# EAGLE library part PIC16F1459 (library GadgetFactory_v1)
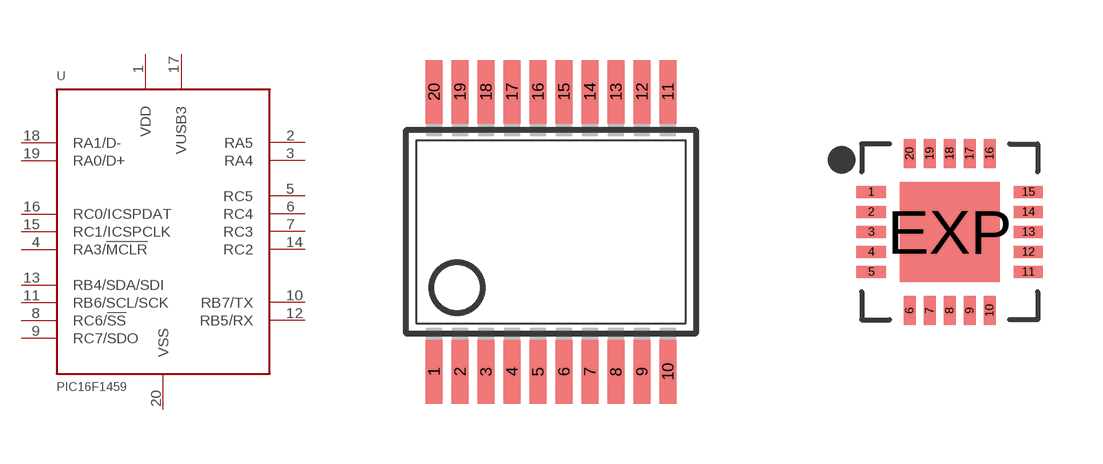
[diagram p14: symbol with the pads of SSOP20; footprints SSOP20, QFN20]

Designator prefix U

## PIC16F1459SS  [SSOP20]
1  VDD  pwr
2  RA5
3  RA4
4  RA3/!MCLR
5  RC5
6  RC4
7  RC3
8  RC6/!SS
9  RC7/SDO
10  RB7/TX
11  RB6/SCL/SCK
12  RB5/RX
13  RB4/SDA/SDI
14  RC2
15  RC1/ICSPCLK
16  RC0/ICSPDAT
17  VUSB3  pwr
18  RA1/D-
19  RA0/D+
20  VSS  pas

## PIC16F1459ML  [QFN20]
1  RA3/!MCLR
2  RC5
3  RC4
4  RC3
5  RC6/!SS
6  RC7/SDO
7  RB7/TX
8  RB6/SCL/SCK
9  RB5/RX
10  RB4/SDA/SDI
11  RC2
12  RC1/ICSPCLK
13  RC0/ICSPDAT
14  VUSB3  pwr
15  RA1/D-
16  RA0/D+
17  VSS  pas
18  VDD  pwr
19  RA5
20  RA4

## PIC16F1459SO  [SO20W]
Pads as for SSOP20

## Footprint SSOP20 (pad centres in mm)
Small Shrink Outline Package
smd 0.42 x 1.6: 1 -2.925,-3.502; 2 -2.275,-3.502; 3 -1.625,-3.502; 4 -0.975,-3.502; 5 -0.325,-3.502; 6 0.325,-3.502; 7 0.975,-3.502; 8 1.625,-3.502; 9 2.275,-3.502; 10 2.925,-3.502; 11 2.925,3.502; 12 2.275,3.502; 13 1.625,3.502; 14 0.975,3.502; 15 0.325,3.502; 16 -0.325,3.502; 17 -0.975,3.502; 18 -1.625,3.502; 19 -2.275,3.502; 20 -2.925,3.502

## Footprint QFN20 (pad centres in mm)
smd 0.73 x 0.3: 1 -1.965,1; 2 -1.965,0.5; 3 -1.965,0; 4 -1.965,-0.5; 5 -1.965,-1; 11 1.965,-1; 12 1.965,-0.5; 13 1.965,0; 14 1.965,0.5; 15 1.965,1
smd 0.3 x 0.73: 6 -1,-1.965; 7 -0.5,-1.965; 8 0,-1.965; 9 0.5,-1.965; 10 1,-1.965; 16 1,1.965; 17 0.5,1.965; 18 0,1.965; 19 -0.5,1.965; 20 -1,1.965
smd 2.5 x 2.5: EXP 0,0

## Footprint SO20W (pad centres in mm)
Wide Small Outline package 300 mil
smd 0.66 x 2.032: 1 -5.715,-5.029; 2 -4.445,-5.029; 3 -3.175,-5.029; 4 -1.905,-5.029; 5 -0.635,-5.029; 6 0.635,-5.029; 7 1.905,-5.029; 8 3.175,-5.029; 9 4.445,-5.029; 10 5.715,-5.029; 11 5.715,5.029; 12 4.445,5.029; 13 3.175,5.029; 14 1.905,5.029; 15 0.635,5.029; 16 -0.635,5.029; 17 -1.905,5.029; 18 -3.175,5.029; 19 -4.445,5.029; 20 -5.715,5.029